# EAGLE library part CUSTOM_12V_REG (library Custom_12V_Reg)
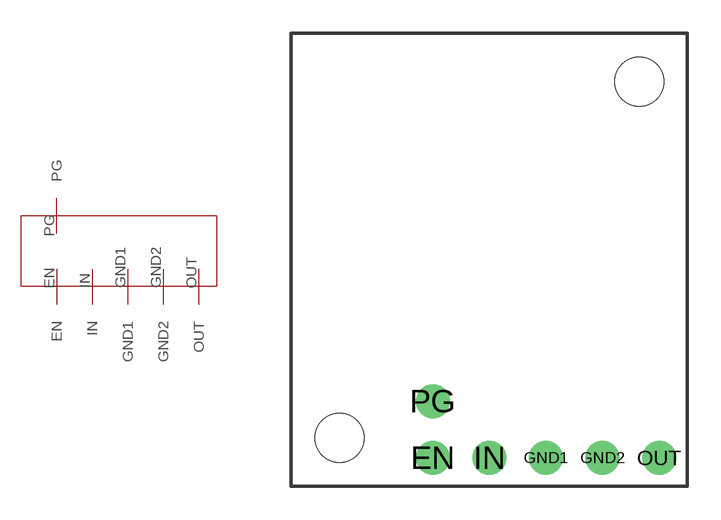
[diagram p0: symbol with the pads of CUSTOM_12V_REG; footprint CUSTOM_12V_REG]

Designator prefix -

## CUSTOM_12V_REG  [CUSTOM_12V_REG]
EN  EN
GND1  GND1
GND2  GND2
IN  IN
OUT  OUT
PG  PG

## Footprint CUSTOM_12V_REG (pad centres in mm)
drill 1.016: EN 6.35,1.27; GND1 11.43,1.27; GND2 13.97,1.27; IN 8.89,1.27; OUT 16.51,1.27; PG 6.35,3.81
hole 2.184 at 2.159,2.159
hole 2.184 at 15.621,18.161